# Altium footprint library 1-406541-1_1.PcbLib: 1 footprints
Each footprint in its own frame and in the unit in brackets; x right, y up, seen from the top. Pads: shape width x height; smd on the part's side, far side on the other; paste and mask are expansions set on the pad; w line width, h text height; cw(c..) or ccw(c..) is an arc to the next point about the centre after c.
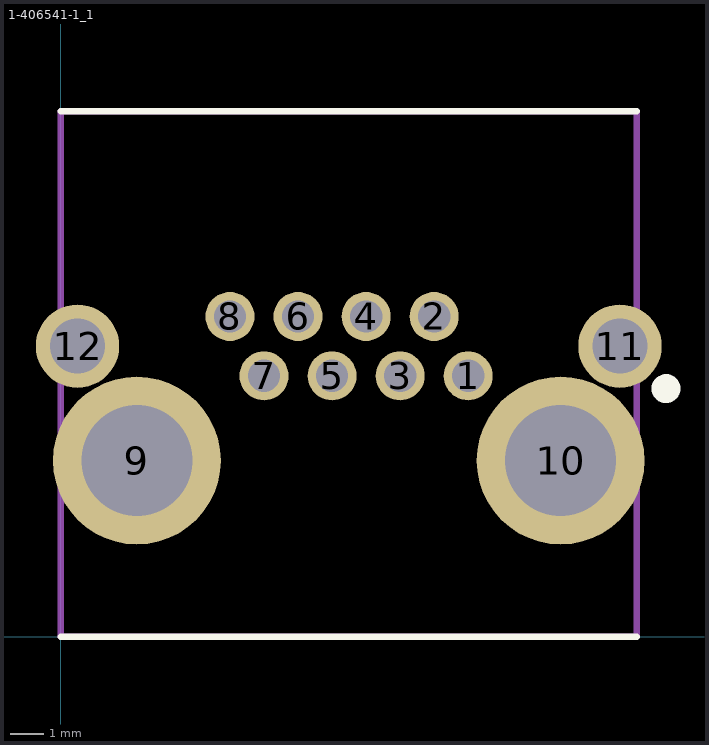
[diagram p0: the footprint, top view; thin cyan lines are the x and y axes]

## 1-406541-1_1 [mm]
pads (12):
  round 1.47 hole 0.97: 1(12.215,7.82) 2(11.195,9.6) 3(10.175,7.82) 4(9.155,9.6) 5(8.135,7.82) 6(7.115,9.6) 7(6.095,7.82) 8(5.075,9.6)
  round 5.03 hole 3.33: 9(2.285,5.28) 10(14.985,5.28)
  round 2.5 hole 1.65: 11(16.765,8.71) 12(0.505,8.71)
L26-Silk Screen Top (Multiple PADS layers...):
  circle w0.5: c18.145,7.437 r0.185
  lines w0.2: 0,0 17.27,0 ; 0,15.75 17.27,15.75
L15 (Multiple PADS layers...):
  lines w0.2: 0,0 0,15.75 17.27,15.75 17.27,0 0,0
3D body "RJ45 Modular Jack - AMP 1-406541-1.stp": height 14.53, standoff -3.45, extent -0.633,-0.659 17.133,15.391